# Altium integrated library WD Communication USART.IntLib: 4 symbols
Pins are listed as number, name and electrical type; pins without a type are passive.

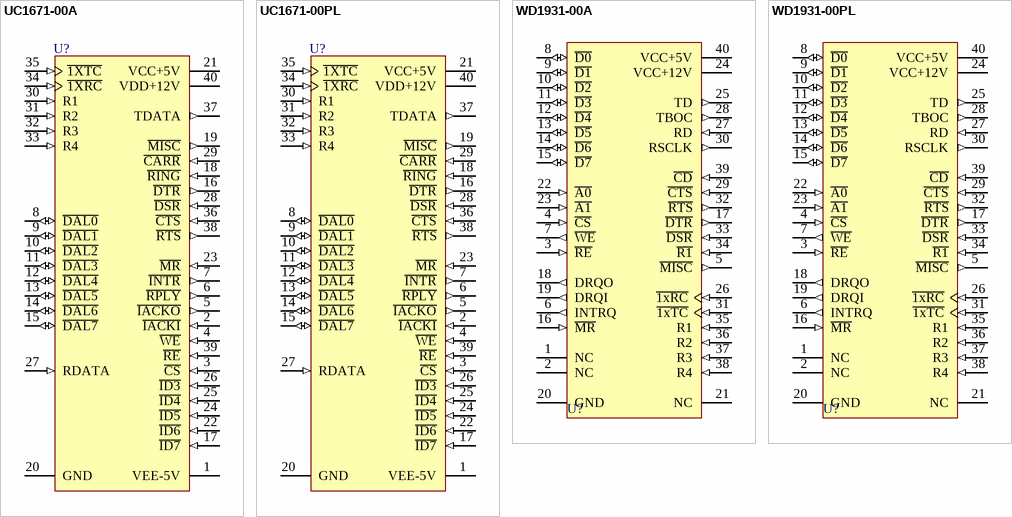
[diagram p0: symbols UC1671-00A to WD1931-00PL]

## UC1671-00A
designator U?
ASTRO; PackageDocument: 1984; Published: 8-Jun-2000; LatestRevisionDate: 4-Mar-2005; LatestRevisionNote: Stylized 3D Model Added.; DatasheetDocument: 1984; PackageReference: A40; Publisher: Altium Limited; ComponentLink1Description: Manufacturer Link; ComponentLink1URL: http://www.wdc.com/
footprint A40 (DIP; 40 Leads; Row Spacing 15.24 mm; Pitch 2.54 mm)
3D model A40 (DIP; 40 Leads; Row Spacing 15.24 mm; Pitch 2.54 mm)
pins: 1 VEE-5V (power), 2 ~{IACKI} (in), 3 ~{CS} (in), 4 ~{WE} (in), 5 ~{IACKO} (out), 6 ~{RPLY} (out), 7 ~{INTR} (out), 8 ~{DAL0} (io), 9 ~{DAL1} (io), 10 ~{DAL2} (io), 11 ~{DAL3} (io), 12 ~{DAL4} (io), 13 ~{DAL5} (io), 14 ~{DAL6} (io), 15 ~{DAL7} (io), 16 ~{DTR} (out), 17 ~{ID7} (in), 18 ~{RING} (in), 19 ~{MISC} (out), 20 GND (power), 21 VCC+5V (power), 22 ~{ID6} (in), 23 ~{MR} (in), 24 ~{ID5} (in), 25 ~{ID4} (in), 26 ~{ID3} (in), 27 RDATA (in), 28 ~{DSR} (in), 29 ~{CARR} (in), 30 R1 (in), 31 R2 (in), 32 R3 (in), 33 R4 (in), 34 ~{1XRC} (in), 35 ~{1XTC} (in), 36 ~{CTS} (in), 37 TDATA (out), 38 ~{RTS} (out), 39 ~{RE} (in), 40 VDD+12V (power)

## UC1671-00PL
designator U?
ASTRO; PackageDocument: 1984; Published: 8-Jun-2000; LatestRevisionDate: 4-Mar-2005; LatestRevisionNote: Stylized 3D Model Added.; DatasheetDocument: 1984; PackageReference: PL40; Publisher: Altium Limited; ComponentLink1Description: Manufacturer Link; ComponentLink1URL: http://www.wdc.com/
footprint PL40 (DIP; 40 Leads; Row Spacing 15.24 mm; Pitch 2.54 mm)
3D model PL40 (DIP; 40 Leads; Row Spacing 15.24 mm; Pitch 2.54 mm)
pins: 1 VEE-5V (power), 2 ~{IACKI} (in), 3 ~{CS} (in), 4 ~{WE} (in), 5 ~{IACKO} (out), 6 ~{RPLY} (out), 7 ~{INTR} (out), 8 ~{DAL0} (io), 9 ~{DAL1} (io), 10 ~{DAL2} (io), 11 ~{DAL3} (io), 12 ~{DAL4} (io), 13 ~{DAL5} (io), 14 ~{DAL6} (io), 15 ~{DAL7} (io), 16 ~{DTR} (out), 17 ~{ID7} (in), 18 ~{RING} (in), 19 ~{MISC} (out), 20 GND (power), 21 VCC+5V (power), 22 ~{ID6} (in), 23 ~{MR} (in), 24 ~{ID5} (in), 25 ~{ID4} (in), 26 ~{ID3} (in), 27 RDATA (in), 28 ~{DSR} (in), 29 ~{CARR} (in), 30 R1 (in), 31 R2 (in), 32 R3 (in), 33 R4 (in), 34 ~{1XRC} (in), 35 ~{1XTC} (in), 36 ~{CTS} (in), 37 TDATA (out), 38 ~{RTS} (out), 39 ~{RE} (in), 40 VDD+12V (power)

## WD1931-00A
designator U?
Asynchronous/Synchronous Receiver/Transmitter; PackageDocument: 1984; Published: 8-Jun-2000; LatestRevisionDate: 4-Mar-2005; LatestRevisionNote: Stylized 3D Model Added.; DatasheetDocument: 1984; PackageReference: A40; Publisher: Altium Limited; ComponentLink1Description: Manufacturer Link; ComponentLink1URL: http://www.wdc.com/
footprint A40 (DIP; 40 Leads; Row Spacing 15.24 mm; Pitch 2.54 mm)
3D model A40 (DIP; 40 Leads; Row Spacing 15.24 mm; Pitch 2.54 mm)
pins: 1 NC, 2 NC, 3 ~{RE} (in), 4 ~{CS} (in), 5 ~{MISC} (out), 6 INTRQ (out), 7 ~{WE} (out), 8 ~{D0} (io), 9 ~{D1} (io), 10 ~{D2} (io), 11 ~{D3} (io), 12 ~{D4} (io), 13 ~{D5} (io), 14 ~{D6} (io), 15 ~{D7} (io), 16 ~{MR} (in), 17 ~{DTR} (out), 18 DRQO (out), 19 DRQI (out), 20 GND (power), 21 NC, 22 ~{A0} (in), 23 ~{A1} (in), 24 VCC+12V (power), 25 TD (out), 26 ~{1xRC} (in), 27 RD (in), 28 TBOC (out), 29 ~{CTS} (in), 30 RSCLK (out), 31 ~{1xTC} (in), 32 ~{RTS} (out), 33 ~{DSR} (in), 34 ~{R1} (in), 35 R1 (in), 36 R2 (in), 37 R3 (in), 38 R4 (in), 39 ~{CD} (in), 40 VCC+5V (power)

## WD1931-00PL
designator U?
Asynchronous/Synchronous Receiver/Transmitter; PackageDocument: 1984; Published: 8-Jun-2000; LatestRevisionDate: 4-Mar-2005; LatestRevisionNote: Stylized 3D Model Added.; DatasheetDocument: 1984; PackageReference: PL40; Publisher: Altium Limited; ComponentLink1Description: Manufacturer Link; ComponentLink1URL: http://www.wdc.com/
footprint PL40 (DIP; 40 Leads; Row Spacing 15.24 mm; Pitch 2.54 mm)
3D model PL40 (DIP; 40 Leads; Row Spacing 15.24 mm; Pitch 2.54 mm)
pins: 1 NC, 2 NC, 3 ~{RE} (in), 4 ~{CS} (in), 5 ~{MISC} (out), 6 INTRQ (out), 7 ~{WE} (out), 8 ~{D0} (io), 9 ~{D1} (io), 10 ~{D2} (io), 11 ~{D3} (io), 12 ~{D4} (io), 13 ~{D5} (io), 14 ~{D6} (io), 15 ~{D7} (io), 16 ~{MR} (in), 17 ~{DTR} (out), 18 DRQO (out), 19 DRQI (out), 20 GND (power), 21 NC, 22 ~{A0} (in), 23 ~{A1} (in), 24 VCC+12V (power), 25 TD (out), 26 ~{1xRC} (in), 27 RD (in), 28 TBOC (out), 29 ~{CTS} (in), 30 RSCLK (out), 31 ~{1xTC} (in), 32 ~{RTS} (out), 33 ~{DSR} (in), 34 ~{R1} (in), 35 R1 (in), 36 R2 (in), 37 R3 (in), 38 R4 (in), 39 ~{CD} (in), 40 VCC+5V (power)